# Altium schematic symbol library Switch-Slide.SchLib: 7 symbols
Pins are listed as number, name and electrical type; pins without a type are passive.

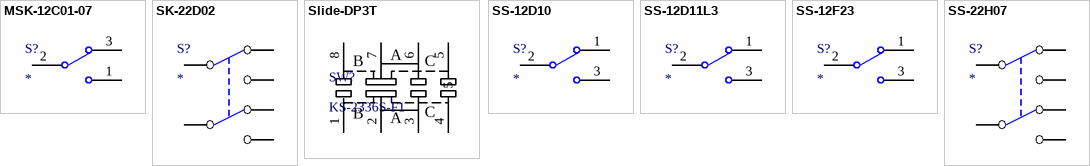
[diagram p0: symbols MSK-12C01-07 to SS-22H07]

## MSK-12C01-07
designator S?
滑动开关
footprint MSK-12C01-07
pins: 1, 2, 3

## SK-22D02
designator S?
滑动开关
footprint SK-22D02
pins: 1, 2, 3, 4, 5, 6

## Slide-DP3T
designator SW?, comment KS-2336S-F1
滑动开关; Manufacturer: *; Manujfacturer_Number: *
footprint Slide-K3-2336S-F1 (DP3T 滑动开关)
pins: 1, 2, 3, 4, 5, 6, 7, 8
text: A; B; C

## SS-12D10
designator S?
滑动开关
footprint SS-12D10
pins: 1, 2, 3

## SS-12D11L3
designator S?
滑动开关
footprint SS-12D11L3 (C843366)
pins: 1, 2, 3

## SS-12F23
designator S?
滑动开关
footprint SS-12F23
pins: 1, 2, 3

## SS-22H07
designator S?
滑动开关
footprint SS-22H07-G2
footprint SS-22H07-G3
footprint SS-22H07-G4
footprint SS-22H07-G5
footprint SS-22H07-G6
footprint SS-22H07-G7
footprint SS-22H07-G8
footprint SS-22H07-G9
pins: 1, 2, 3, 4, 5, 6